# Altium footprint library hsbest3.PcbLib: 363 footprints (part 10 of 23)
Each footprint in its own frame and in the unit in brackets; x right, y up, seen from the top. Pads: shape width x height; smd on the part's side, far side on the other; paste and mask are expansions set on the pad; w line width, h text height; cw(c..) or ccw(c..) is an arc to the next point about the centre after c.
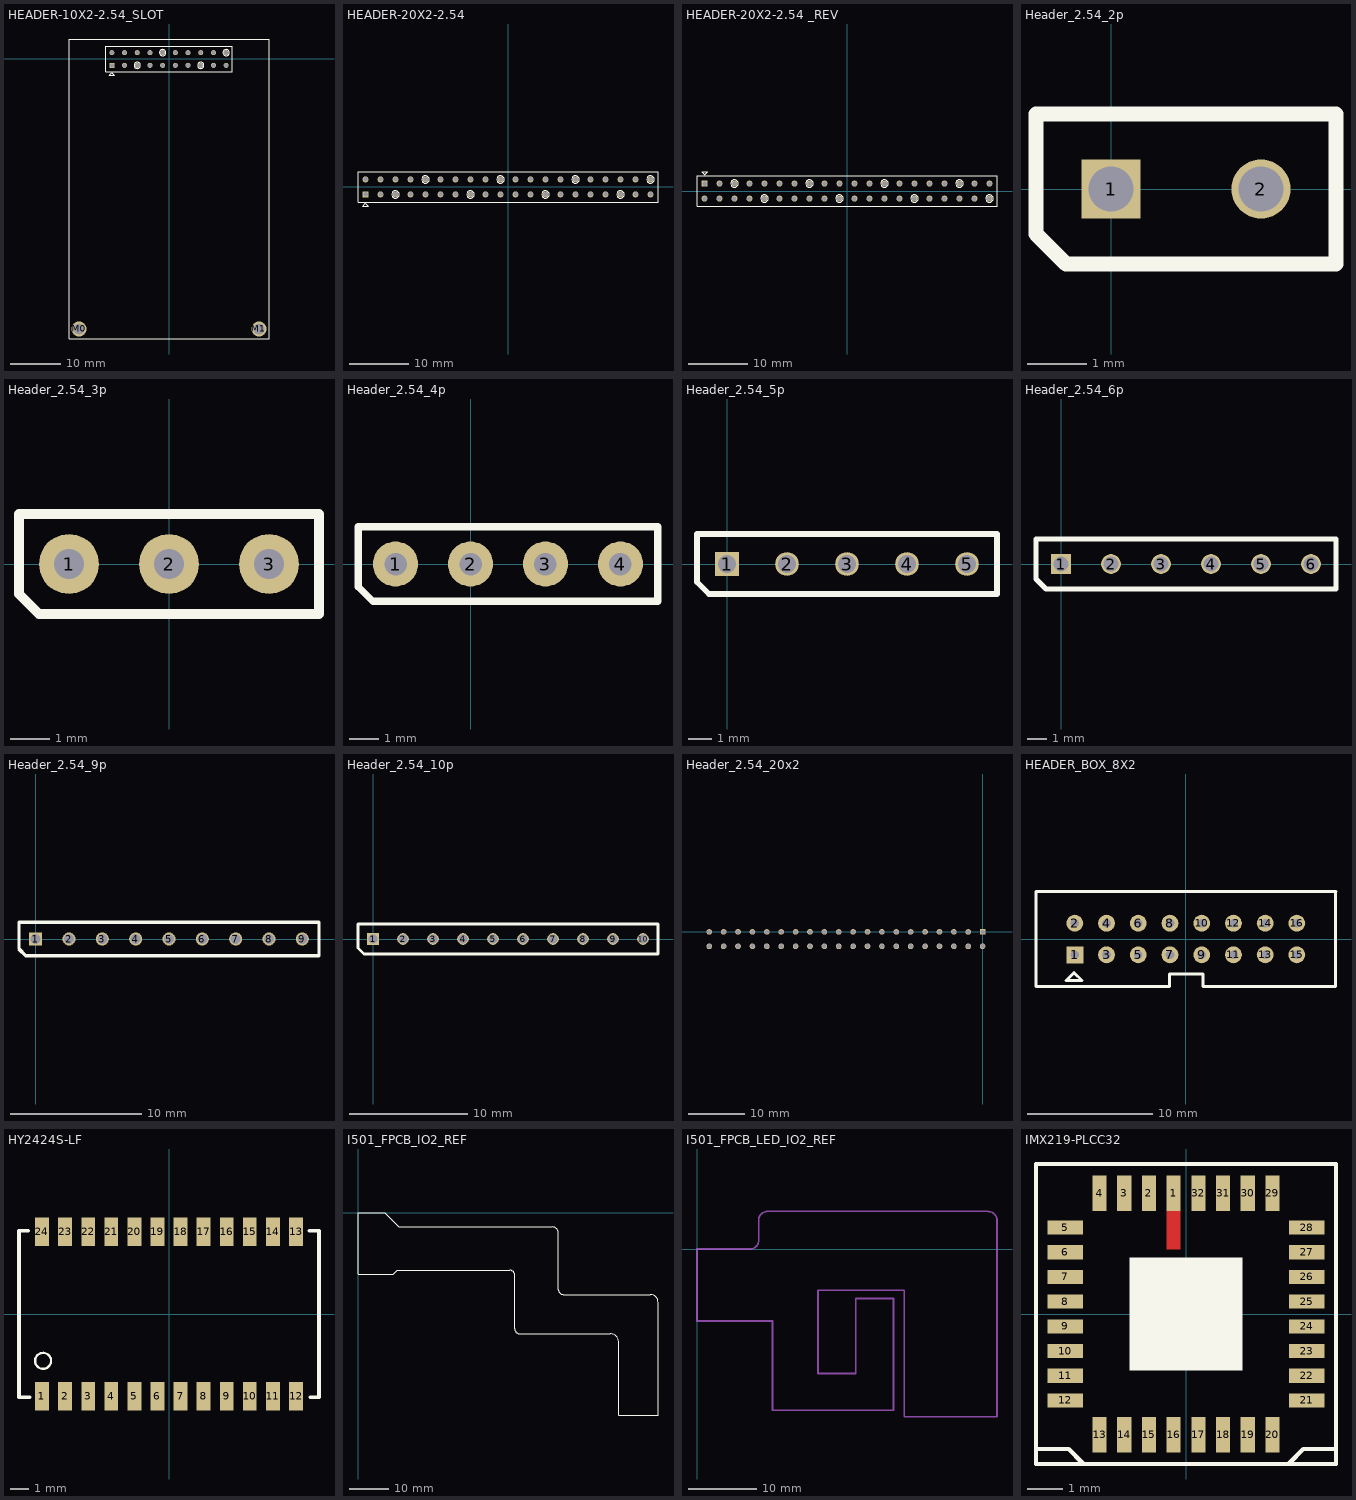
[diagram p9: the footprints below, top view; thin cyan lines are the x and y axes]

## HEADER-10X2-2.54_SLOT [mm]
pads (22):
  rect 1x1 / inner round 1 / far side rect 1x1 hole 0.762: 1(-11.43,-1.27)
  round 1 hole 0.762: 2(-11.43,1.27) 3(-8.89,-1.27) 4(-8.89,1.27) 5(-6.35,-1.27) 6(-6.35,1.27) 7(-3.81,-1.27) 8(-3.81,1.27) 9(-1.27,-1.27) 10(-1.27,1.27) 11(1.27,-1.27) 12(1.27,1.27) 13(3.81,-1.27) 14(3.81,1.27) 15(6.35,-1.27) 16(6.35,1.27) 17(8.89,-1.27) 18(8.89,1.27) 19(11.43,-1.27) 20(11.43,1.27)
  round 3 hole 2.2: M0(-18,-54) M1(18,-54)
Top Overlay:
  circle w0.125: c11.43,1.27 r0.635
  circle w0.125: c6.35,-1.27 r0.635
  circle w0.125: c-1.27,1.27 r0.635
  circle w0.125: c-6.35,-1.27 r0.635
  lines w0.125: -12.7,2.555 -12.7,-2.54 12.67,-2.54 ; -12.68,2.54 12.695,2.54 ; 12.7,-2.52 12.7,2.54 ; -20,-56 20,-56 20,4 -20,4 -20,-56 ; -11.938,-3.239 -10.938,-3.239 -11.438,-2.739 -11.938,-3.239

## HEADER-20X2-2.54 [mm]
pads (40):
  rect 1x1 / inner round 1 / far side rect 1x1 hole 0.762: 1(-24.13,-1.27)
  round 1 hole 0.762: 2(-24.13,1.27) 3(-21.59,-1.27) 4(-21.59,1.27) 5(-19.05,-1.27) 6(-19.05,1.27) 7(-16.51,-1.27) 8(-16.51,1.27) 9(-13.97,-1.27) 10(-13.97,1.27) 11(-11.43,-1.27) 12(-11.43,1.27) 13(-8.89,-1.27) 14(-8.89,1.27) 15(-6.35,-1.27) 16(-6.35,1.27) 17(-3.81,-1.27) 18(-3.81,1.27) 19(-1.27,-1.27) 20(-1.27,1.27) 21(1.27,-1.27) 22(1.27,1.27) 23(3.81,-1.27) 24(3.81,1.27) 25(6.35,-1.27) 26(6.35,1.27) 27(8.89,-1.27) 28(8.89,1.27) 29(11.43,-1.27) 30(11.43,1.27) 31(13.97,-1.27) 32(13.97,1.27) 33(16.51,-1.27) 34(16.51,1.27) 35(19.05,-1.27) 36(19.05,1.27) 37(21.59,-1.27) 38(21.59,1.27) 39(24.13,-1.27) 40(24.13,1.27)
Top Overlay:
  circle w0.125: c-19.05,-1.27 r0.635
  circle w0.125: c-13.97,1.27 r0.635
  circle w0.125: c-6.35,-1.27 r0.635
  circle w0.125: c-1.27,1.27 r0.635
  circle w0.125: c11.43,1.27 r0.635
  circle w0.125: c6.35,-1.27 r0.635
  circle w0.125: c24.13,1.27 r0.635
  circle w0.125: c19.05,-1.27 r0.635
  lines w0.125: -25.4,-2.545 25.4,-2.545 25.4,2.555 -25.4,2.555 -25.4,-2.545 ; -24.638,-3.239 -24.138,-2.739 -23.638,-3.239 -24.638,-3.239

## HEADER-20X2-2.54 _REV [mm]
pads (40):
  rect 1x1 / inner round 1 / far side rect 1x1 hole 0.762: 1(-24.13,1.27)
  round 1 hole 0.762: 2(-24.13,-1.27) 3(-21.59,1.27) 4(-21.595,-1.27) 5(-19.05,1.27) 6(-19.055,-1.27) 7(-16.51,1.27) 8(-16.515,-1.27) 9(-13.97,1.27) 10(-13.975,-1.27) 11(-11.43,1.27) 12(-11.435,-1.27) 13(-8.89,1.27) 14(-8.895,-1.27) 15(-6.35,1.27) 16(-6.355,-1.27) 17(-3.81,1.27) 18(-3.815,-1.27) 19(-1.27,1.27) 20(-1.275,-1.27) 21(1.27,1.27) 22(1.265,-1.27) 23(3.81,1.27) 24(3.805,-1.27) 25(6.35,1.27) 26(6.345,-1.27) 27(8.89,1.27) 28(8.885,-1.27) 29(11.43,1.27) 30(11.425,-1.27) 31(13.97,1.27) 32(13.965,-1.27) 33(16.51,1.27) 34(16.505,-1.27) 35(19.05,1.27) 36(19.045,-1.27) 37(21.59,1.27) 38(21.585,-1.27) 39(24.13,1.27) 40(24.125,-1.27)
Top Overlay:
  circle w0.125: c19.05,1.27 r0.635
  circle w0.125: c24.125,-1.27 r0.635
  circle w0.125: c6.35,1.27 r0.635
  circle w0.125: c11.425,-1.27 r0.635
  circle w0.125: c-1.275,-1.27 r0.635
  circle w0.125: c-6.35,1.27 r0.635
  circle w0.125: c-13.975,-1.27 r0.635
  circle w0.125: c-19.05,1.27 r0.635
  lines w0.125: -25.4,-2.545 -25.4,2.555 25.4,2.555 25.4,-2.545 -25.4,-2.545 ; -24.622,3.239 -23.622,3.239 -24.122,2.739 -24.622,3.239

## Header_2.54_2p [mm]
pads (2):
  rect 1x1 hole 0.762: 1(0,0)
  round 1 hole 0.762: 2(2.54,0)
Top Overlay:
  lines w0.254: -1.27,-0.762 -0.762,-1.27 3.81,-1.27 3.81,1.27 -1.27,1.27 -1.27,-0.762

## Header_2.54_3p [mil]
pads (3):
  round 60 hole 30: 1(-100,0) 2(0,0) 3(100,0)
Top Overlay:
  lines w10: -150,-30 -150,50 150,50 150,-50 -130,-50 -150,-30

## Header_2.54_4p [mil]
pads (4):
  round 60 hole 30: 1(-100,0) 2(0,0) 3(100,0) 4(200,0)
Top Overlay:
  lines w10: -150,-30 -150,50 250,50 250,-50 -130,-50 -150,-30

## Header_2.54_5p [mm]
pads (5):
  rect 1x1 hole 0.762: 1(0,0)
  round 1 hole 0.762: 2(2.54,0) 3(5.08,0) 4(7.62,0) 5(10.16,0)
Top Overlay:
  lines w0.254: 11.4,1.27 -1.27,1.27 -1.27,-0.762 -0.762,-1.27 11.43,-1.27 11.43,1.27

## Header_2.54_6p [mm]
pads (6):
  rect 1x1 hole 0.762: 1(0,0)
  round 1 hole 0.762: 2(2.54,0) 3(5.08,0) 4(7.62,0) 5(10.16,0) 6(12.7,0)
Top Overlay:
  lines w0.254: -1.27,-0.762 -0.762,-1.27 13.97,-1.27 13.97,1.27 -1.27,1.27 -1.27,-0.762

## Header_2.54_9p [mm]
pads (9):
  rect 1x1 hole 0.762: 1(0,0)
  round 1 hole 0.762: 2(2.54,0) 3(5.08,0) 4(7.62,0) 5(10.16,0) 6(12.7,0) 7(15.24,0) 8(17.78,0) 9(20.32,0)
Top Overlay:
  lines w0.254: -1.27,-0.762 -1.27,1.27 21.59,1.27 21.59,-1.27 -0.762,-1.27 -1.27,-0.762

## Header_2.54_10p [mm]
pads (10):
  rect 1x1 hole 0.762: 1(0,0)
  round 1 hole 0.762: 2(2.54,0) 3(5.08,0) 4(7.62,0) 5(10.16,0) 6(12.7,0) 7(15.24,0) 8(17.78,0) 9(20.32,0) 10(22.86,0)
Top Overlay:
  lines w0.254: 24.125,1.27 -1.27,1.27 -1.27,-0.762 -0.762,-1.27 24.13,-1.27 24.13,1.27

## Header_2.54_20x2 [mm]
pads (40):
  rect 1x1 hole 0.762: 1(0,0)
  round 1 hole 0.762: 2(0,-2.54) 3(-2.54,0) 4(-2.54,-2.54) 5(-5.08,0) 6(-5.08,-2.54) 7(-7.62,0) 8(-7.62,-2.54) 9(-10.16,0) 10(-10.16,-2.54) 11(-12.7,0) 12(-12.7,-2.54) 13(-15.24,0) 14(-15.24,-2.54) 15(-17.78,0) 16(-17.78,-2.54) 17(-20.32,0) 18(-20.32,-2.54) 19(-22.86,0) 20(-22.86,-2.54) 21(-25.4,0) 22(-25.4,-2.54) 23(-27.94,0) 24(-27.94,-2.54) 25(-30.48,0) 26(-30.48,-2.54) 27(-33.02,0) 28(-33.02,-2.54) 29(-35.56,0) 30(-35.56,-2.54) 31(-38.1,0) 32(-38.1,-2.54) 33(-40.64,0) 34(-40.64,-2.54) 35(-43.18,0) 36(-43.18,-2.54) 37(-45.72,0) 38(-45.72,-2.54) 39(-48.26,0) 40(-48.26,-2.54)
Bottom Overlay:
  region: 2.501,-0.625 0.675,1.309 2.501,1.309
  lines w0.254: 2.525,-3.81 -50.425,-3.81 -50.425,1.27 2.54,1.27 2.54,-3.81

## HEADER_BOX_8X2 [mm]
height 12.3
pads (16):
  rect 1.35x1.35 hole 0.7: 1(-8.89,-1.27)
  round 1.35 hole 0.7: 2(-8.89,1.27) 3(-6.35,-1.27) 4(-6.35,1.27) 5(-3.81,-1.27) 6(-3.81,1.27) 7(-1.27,-1.27) 8(-1.27,1.27) 9(1.27,-1.27) 10(1.27,1.27) 11(3.81,-1.27) 12(3.81,1.27) 13(6.35,-1.27) 14(6.35,1.27) 15(8.89,-1.27) 16(8.89,1.27)
Top Overlay:
  lines w0.25: -12,3.81 -12,-3.81 -1.31,-3.81 -1.31,-2.794 1.365,-2.794 1.365,-3.81 11.975,-3.81 ; -11.975,3.81 12.025,3.81 ; 12,-3.81 12,3.81 ; -9.588,-3.328 -8.953,-2.693 -8.318,-3.328 -9.588,-3.328

## HY2424S-LF [mm]
pads (24):
  rect 0.76x1.56 smd: 1(-6.985,-4.525) 2(-5.715,-4.525) 3(-4.445,-4.525) 4(-3.175,-4.525) 5(-1.905,-4.525) 6(-0.635,-4.525) 7(0.635,-4.525) 8(1.905,-4.525) 9(3.175,-4.525) 10(4.445,-4.525) 11(5.715,-4.525) 12(6.985,-4.525) 13(6.985,4.525) 14(5.715,4.525) 15(4.445,4.525) 16(3.175,4.525) 17(1.905,4.525) 18(0.635,4.525) 19(-0.635,4.525) 20(-1.905,4.525) 21(-3.175,4.525) 22(-4.445,4.525) 23(-5.715,4.525) 24(-6.985,4.525)
Top Overlay:
  circle w0.127: c-6.925,-2.575 r0.439
  lines w0.203: -7.75,4.58 -8.25,4.58 -8.25,-4.58 -7.675,-4.58 ; 7.725,4.58 8.25,4.58 8.25,-4.58 7.775,-4.58

## I501_FPCB_IO2_REF [mm]
Top Overlay:
  lines w0.254: 0,-15.625 8.925,-15.625 9.95,-14.6 38.605,-14.6 cw(c38.605,-15.87) 39.875,-15.87 39.875,-16.325 39.875,-29.505 ccw(c41.145,-29.505) 41.145,-30.775 64.234,-30.775 ; 0,-15.5 0,0 6.8,0 10.4,-3.6 49.429,-3.6 cw(c49.429,-5.121) 50.95,-5.121 50.95,-19.518 ; 50.958,-19.518 ccw(c52.22,-19.518) 52.22,-20.78 74.383,-20.78 ; 64.234,-30.783 cw(c64.234,-32.87) 66.32,-32.87 66.32,-51.48 76.32,-51.48 76.32,-22.725 ccw(c74.383,-22.725) 74.383,-20.788
Bottom Overlay:
  rectangle: 69.82,-47.73 72.82,-37.73

## I501_FPCB_LED_IO2_REF [mm]
Bottom Overlay:
  lines w0.254: 42.47,5.475 cw(c42.47,4.205) 43.74,4.205 43.74,-24.4 43.715,-24.425 30.215,-24.425 30.215,-6 17.64,-6 17.64,-18.125 23.14,-18.125 23.14,-7.2 28.64,-7.2 28.64,-23.5 11,-23.5 11,-10.5 0,-10.5 0,0 7.73,0 ccw(c7.73,1.27) 9,1.27 9,4.23 cw(c10.27,4.23) 10.27,5.5 42.47,5.5

## IMX219-PLCC32 [mm]
pads (32):
  rect 0.4x1 smd: 1(-0.35,3.425) 2(-1.05,3.425) 3(-1.75,3.425) 4(-2.45,3.425) 13(-2.45,-3.425) 14(-1.75,-3.425) 15(-1.05,-3.425) 16(-0.35,-3.425) 17(0.35,-3.425) 18(1.05,-3.425) 19(1.75,-3.425) 20(2.45,-3.425) 29(2.45,3.425) 30(1.75,3.425) 31(1.05,3.425) 32(0.35,3.425)
  rect 1x0.4 smd: 5(-3.425,2.45) 6(-3.425,1.75) 7(-3.425,1.05) 8(-3.425,0.35) 9(-3.425,-0.35) 10(-3.425,-1.05) 11(-3.425,-1.75) 12(-3.425,-2.45) 21(3.425,-2.45) 22(3.425,-1.75) 23(3.425,-1.05) 24(3.425,-0.35) 25(3.425,0.35) 26(3.425,1.05) 27(3.425,1.75) 28(3.425,2.45)
Top Layer:
  rectangle: -0.55,1.825 -0.15,2.925
Top Overlay:
  rectangle: -1.6,-1.6 1.6,1.6
  lines w0.127: -4.25,-3.825 -3.325,-3.825 -2.925,-4.225 ; 2.925,-4.225 3.325,-3.825 4.25,-3.825 ; -4.25,-4.25 -4.25,4.25 4.25,4.25 4.25,-4.25 -4.25,-4.25
Top Solder:
  rectangle: -0.65,1.75 -0.05,2.825